# Altium integrated library Resistor - Chip - Uniohm.IntLib: 336 symbols (part 3 of 3)
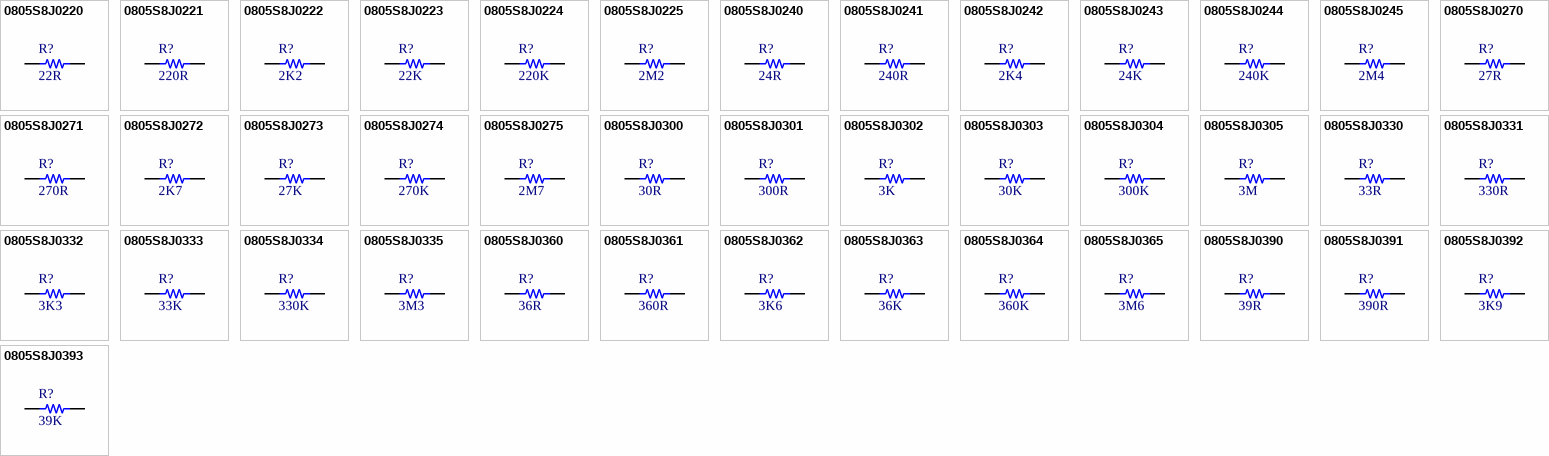
[diagram p10: symbols 0805S8J0220 to 0805S8J0393]

## 0805S8J0273
designator R?, comment 27K
RES SMD 27K OHM 5% 1/8W 0805; Part Number: 0805S8J0273; Manufacturer: Uniohm; TemperatureRange: -55C ~ 155C; TemperatureCoefficient: 100ppm/C; PowerRating: 0.125W, 1/8W; Value: 27K; Tolerance: 5%; Price: 0.0089; Device Package: 2012 (0805 Metric)
footprint RES 0805/2012 (Chip Resistor, 2-Leads, Body 2.00x1.25mm, IPC Medium Density)
pins: 1, 2

## 0805S8J0274
designator R?, comment 270K
RES SMD 270K OHM 5% 1/8W 0805; Part Number: 0805S8J0274; Manufacturer: Uniohm; TemperatureRange: -55C ~ 155C; TemperatureCoefficient: 100ppm/C; PowerRating: 0.125W, 1/8W; Value: 270K; Tolerance: 5%; Price: 0.0089; Device Package: 2012 (0805 Metric)
footprint RES 0805/2012 (Chip Resistor, 2-Leads, Body 2.00x1.25mm, IPC Medium Density)
pins: 1, 2

## 0805S8J0275
designator R?, comment 2M7
RES SMD 2M7 OHM 5% 1/8W 0805; Part Number: 0805S8J0275; Manufacturer: Uniohm; TemperatureRange: -55C ~ 155C; TemperatureCoefficient: 100ppm/C; PowerRating: 0.125W, 1/8W; Value: 2M7; Tolerance: 5%; Price: 0.0089; Device Package: 2012 (0805 Metric)
footprint RES 0805/2012 (Chip Resistor, 2-Leads, Body 2.00x1.25mm, IPC Medium Density)
pins: 1, 2

## 0805S8J0300
designator R?, comment 30R
RES SMD 30R OHM 5% 1/8W 0805; Part Number: 0805S8J0300; Manufacturer: Uniohm; TemperatureRange: -55C ~ 155C; TemperatureCoefficient: 100ppm/C; PowerRating: 0.125W, 1/8W; Value: 30R; Tolerance: 5%; Price: 0.0089; Device Package: 2012 (0805 Metric)
footprint RES 0805/2012 (Chip Resistor, 2-Leads, Body 2.00x1.25mm, IPC Medium Density)
pins: 1, 2

## 0805S8J0301
designator R?, comment 300R
RES SMD 300R OHM 5% 1/8W 0805; Part Number: 0805S8J0301; Manufacturer: Uniohm; TemperatureRange: -55C ~ 155C; TemperatureCoefficient: 100ppm/C; PowerRating: 0.125W, 1/8W; Value: 300R; Tolerance: 5%; Price: 0.0089; Device Package: 2012 (0805 Metric)
footprint RES 0805/2012 (Chip Resistor, 2-Leads, Body 2.00x1.25mm, IPC Medium Density)
pins: 1, 2

## 0805S8J0302
designator R?, comment 3K
RES SMD 3K OHM 5% 1/8W 0805; Part Number: 0805S8J0302; Manufacturer: Uniohm; TemperatureRange: -55C ~ 155C; TemperatureCoefficient: 100ppm/C; PowerRating: 0.125W, 1/8W; Value: 3K; Tolerance: 5%; Price: 0.0089; Device Package: 2012 (0805 Metric)
footprint RES 0805/2012 (Chip Resistor, 2-Leads, Body 2.00x1.25mm, IPC Medium Density)
pins: 1, 2

## 0805S8J0303
designator R?, comment 30K
RES SMD 30K OHM 5% 1/8W 0805; Part Number: 0805S8J0303; Manufacturer: Uniohm; TemperatureRange: -55C ~ 155C; TemperatureCoefficient: 100ppm/C; PowerRating: 0.125W, 1/8W; Value: 30K; Tolerance: 5%; Price: 0.0089; Device Package: 2012 (0805 Metric)
footprint RES 0805/2012 (Chip Resistor, 2-Leads, Body 2.00x1.25mm, IPC Medium Density)
pins: 1, 2

## 0805S8J0304
designator R?, comment 300K
RES SMD 300K OHM 5% 1/8W 0805; Part Number: 0805S8J0304; Manufacturer: Uniohm; TemperatureRange: -55C ~ 155C; TemperatureCoefficient: 100ppm/C; PowerRating: 0.125W, 1/8W; Value: 300K; Tolerance: 5%; Price: 0.0089; Device Package: 2012 (0805 Metric)
footprint RES 0805/2012 (Chip Resistor, 2-Leads, Body 2.00x1.25mm, IPC Medium Density)
pins: 1, 2

## 0805S8J0305
designator R?, comment 3M
RES SMD 3M OHM 5% 1/8W 0805; Part Number: 0805S8J0305; Manufacturer: Uniohm; TemperatureRange: -55C ~ 155C; TemperatureCoefficient: 100ppm/C; PowerRating: 0.125W, 1/8W; Value: 3M; Tolerance: 5%; Price: 0.0089; Device Package: 2012 (0805 Metric)
footprint RES 0805/2012 (Chip Resistor, 2-Leads, Body 2.00x1.25mm, IPC Medium Density)
pins: 1, 2

## 0805S8J0330
designator R?, comment 33R
RES SMD 33R OHM 5% 1/8W 0805; Part Number: 0805S8J0330; Manufacturer: Uniohm; TemperatureRange: -55C ~ 155C; TemperatureCoefficient: 100ppm/C; PowerRating: 0.125W, 1/8W; Value: 33R; Tolerance: 5%; Price: 0.0089; Device Package: 2012 (0805 Metric)
footprint RES 0805/2012 (Chip Resistor, 2-Leads, Body 2.00x1.25mm, IPC Medium Density)
pins: 1, 2

## 0805S8J0331
designator R?, comment 330R
RES SMD 330R OHM 5% 1/8W 0805; Part Number: 0805S8J0331; Manufacturer: Uniohm; TemperatureRange: -55C ~ 155C; TemperatureCoefficient: 100ppm/C; PowerRating: 0.125W, 1/8W; Value: 330R; Tolerance: 5%; Price: 0.0089; Device Package: 2012 (0805 Metric)
footprint RES 0805/2012 (Chip Resistor, 2-Leads, Body 2.00x1.25mm, IPC Medium Density)
pins: 1, 2

## 0805S8J0332
designator R?, comment 3K3
RES SMD 3K3 OHM 5% 1/8W 0805; Part Number: 0805S8J0332; Manufacturer: Uniohm; TemperatureRange: -55C ~ 155C; TemperatureCoefficient: 100ppm/C; PowerRating: 0.125W, 1/8W; Value: 3K3; Tolerance: 5%; Price: 0.0089; Device Package: 2012 (0805 Metric)
footprint RES 0805/2012 (Chip Resistor, 2-Leads, Body 2.00x1.25mm, IPC Medium Density)
pins: 1, 2

## 0805S8J0333
designator R?, comment 33K
RES SMD 33K OHM 5% 1/8W 0805; Part Number: 0805S8J0333; Manufacturer: Uniohm; TemperatureRange: -55C ~ 155C; TemperatureCoefficient: 100ppm/C; PowerRating: 0.125W, 1/8W; Value: 33K; Tolerance: 5%; Price: 0.0089; Device Package: 2012 (0805 Metric)
footprint RES 0805/2012 (Chip Resistor, 2-Leads, Body 2.00x1.25mm, IPC Medium Density)
pins: 1, 2

## 0805S8J0334
designator R?, comment 330K
RES SMD 330K OHM 5% 1/8W 0805; Part Number: 0805S8J0334; Manufacturer: Uniohm; TemperatureRange: -55C ~ 155C; TemperatureCoefficient: 100ppm/C; PowerRating: 0.125W, 1/8W; Value: 330K; Tolerance: 5%; Price: 0.0089; Device Package: 2012 (0805 Metric)
footprint RES 0805/2012 (Chip Resistor, 2-Leads, Body 2.00x1.25mm, IPC Medium Density)
pins: 1, 2

## 0805S8J0335
designator R?, comment 3M3
RES SMD 3M3 OHM 5% 1/8W 0805; Part Number: 0805S8J0335; Manufacturer: Uniohm; TemperatureRange: -55C ~ 155C; TemperatureCoefficient: 100ppm/C; PowerRating: 0.125W, 1/8W; Value: 3M3; Tolerance: 5%; Price: 0.0089; Device Package: 2012 (0805 Metric)
footprint RES 0805/2012 (Chip Resistor, 2-Leads, Body 2.00x1.25mm, IPC Medium Density)
pins: 1, 2

## 0805S8J0360
designator R?, comment 36R
RES SMD 36R OHM 5% 1/8W 0805; Part Number: 0805S8J0360; Manufacturer: Uniohm; TemperatureRange: -55C ~ 155C; TemperatureCoefficient: 100ppm/C; PowerRating: 0.125W, 1/8W; Value: 36R; Tolerance: 5%; Price: 0.0089; Device Package: 2012 (0805 Metric)
footprint RES 0805/2012 (Chip Resistor, 2-Leads, Body 2.00x1.25mm, IPC Medium Density)
pins: 1, 2

## 0805S8J0361
designator R?, comment 360R
RES SMD 360R OHM 5% 1/8W 0805; Part Number: 0805S8J0361; Manufacturer: Uniohm; TemperatureRange: -55C ~ 155C; TemperatureCoefficient: 100ppm/C; PowerRating: 0.125W, 1/8W; Value: 360R; Tolerance: 5%; Price: 0.0089; Device Package: 2012 (0805 Metric)
footprint RES 0805/2012 (Chip Resistor, 2-Leads, Body 2.00x1.25mm, IPC Medium Density)
pins: 1, 2

## 0805S8J0362
designator R?, comment 3K6
RES SMD 3K6 OHM 5% 1/8W 0805; Part Number: 0805S8J0362; Manufacturer: Uniohm; TemperatureRange: -55C ~ 155C; TemperatureCoefficient: 100ppm/C; PowerRating: 0.125W, 1/8W; Value: 3K6; Tolerance: 5%; Price: 0.0089; Device Package: 2012 (0805 Metric)
footprint RES 0805/2012 (Chip Resistor, 2-Leads, Body 2.00x1.25mm, IPC Medium Density)
pins: 1, 2

## 0805S8J0363
designator R?, comment 36K
RES SMD 36K OHM 5% 1/8W 0805; Part Number: 0805S8J0363; Manufacturer: Uniohm; TemperatureRange: -55C ~ 155C; TemperatureCoefficient: 100ppm/C; PowerRating: 0.125W, 1/8W; Value: 36K; Tolerance: 5%; Price: 0.0089; Device Package: 2012 (0805 Metric)
footprint RES 0805/2012 (Chip Resistor, 2-Leads, Body 2.00x1.25mm, IPC Medium Density)
pins: 1, 2

## 0805S8J0364
designator R?, comment 360K
RES SMD 360K OHM 5% 1/8W 0805; Part Number: 0805S8J0364; Manufacturer: Uniohm; TemperatureRange: -55C ~ 155C; TemperatureCoefficient: 100ppm/C; PowerRating: 0.125W, 1/8W; Value: 360K; Tolerance: 5%; Price: 0.0089; Device Package: 2012 (0805 Metric)
footprint RES 0805/2012 (Chip Resistor, 2-Leads, Body 2.00x1.25mm, IPC Medium Density)
pins: 1, 2

## 0805S8J0365
designator R?, comment 3M6
RES SMD 3M6 OHM 5% 1/8W 0805; Part Number: 0805S8J0365; Manufacturer: Uniohm; TemperatureRange: -55C ~ 155C; TemperatureCoefficient: 100ppm/C; PowerRating: 0.125W, 1/8W; Value: 3M6; Tolerance: 5%; Price: 0.0089; Device Package: 2012 (0805 Metric)
footprint RES 0805/2012 (Chip Resistor, 2-Leads, Body 2.00x1.25mm, IPC Medium Density)
pins: 1, 2

## 0805S8J0390
designator R?, comment 39R
RES SMD 39R OHM 5% 1/8W 0805; Part Number: 0805S8J0390; Manufacturer: Uniohm; TemperatureRange: -55C ~ 155C; TemperatureCoefficient: 100ppm/C; PowerRating: 0.125W, 1/8W; Value: 39R; Tolerance: 5%; Price: 0.0089; Device Package: 2012 (0805 Metric)
footprint RES 0805/2012 (Chip Resistor, 2-Leads, Body 2.00x1.25mm, IPC Medium Density)
pins: 1, 2

## 0805S8J0391
designator R?, comment 390R
RES SMD 390R OHM 5% 1/8W 0805; Part Number: 0805S8J0391; Manufacturer: Uniohm; TemperatureRange: -55C ~ 155C; TemperatureCoefficient: 100ppm/C; PowerRating: 0.125W, 1/8W; Value: 390R; Tolerance: 5%; Price: 0.0089; Device Package: 2012 (0805 Metric)
footprint RES 0805/2012 (Chip Resistor, 2-Leads, Body 2.00x1.25mm, IPC Medium Density)
pins: 1, 2

## 0805S8J0392
designator R?, comment 3K9
RES SMD 3K9 OHM 5% 1/8W 0805; Part Number: 0805S8J0392; Manufacturer: Uniohm; TemperatureRange: -55C ~ 155C; TemperatureCoefficient: 100ppm/C; PowerRating: 0.125W, 1/8W; Value: 3K9; Tolerance: 5%; Price: 0.0089; Device Package: 2012 (0805 Metric)
footprint RES 0805/2012 (Chip Resistor, 2-Leads, Body 2.00x1.25mm, IPC Medium Density)
pins: 1, 2

## 0805S8J0393
designator R?, comment 39K
RES SMD 39K OHM 5% 1/8W 0805; Part Number: 0805S8J0393; Manufacturer: Uniohm; TemperatureRange: -55C ~ 155C; TemperatureCoefficient: 100ppm/C; PowerRating: 0.125W, 1/8W; Value: 39K; Tolerance: 5%; Price: 0.0089; Device Package: 2012 (0805 Metric)
footprint RES 0805/2012 (Chip Resistor, 2-Leads, Body 2.00x1.25mm, IPC Medium Density)
pins: 1, 2

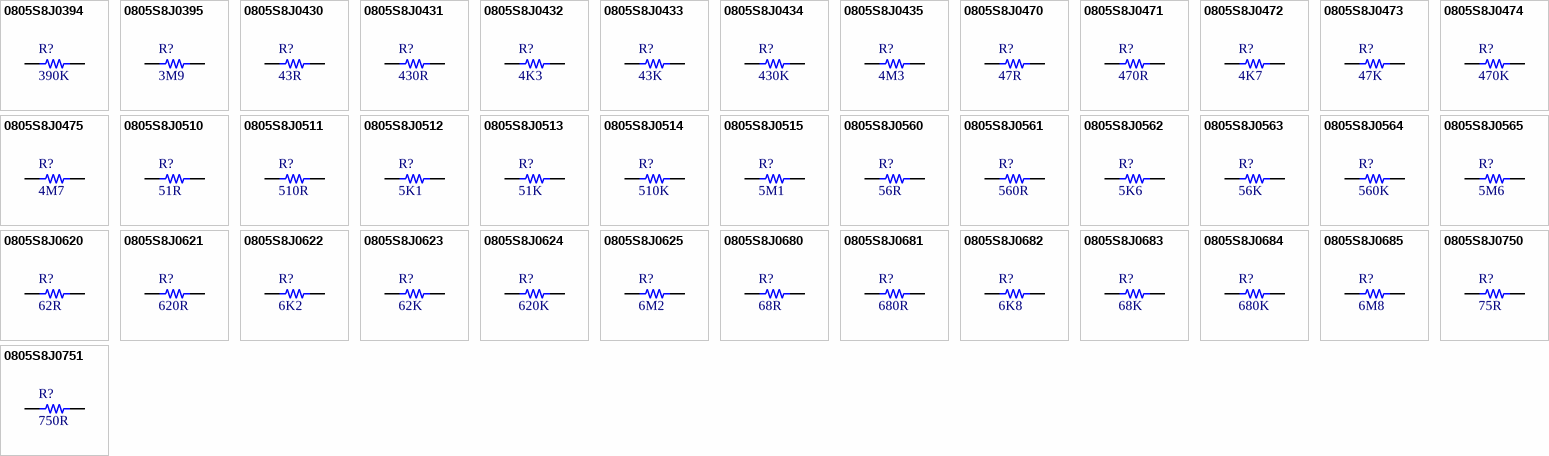
[diagram p7: symbols 0805S8J0394 to 0805S8J0751]

## 0805S8J0394
designator R?, comment 390K
RES SMD 390K OHM 5% 1/8W 0805; Part Number: 0805S8J0394; Manufacturer: Uniohm; TemperatureRange: -55C ~ 155C; TemperatureCoefficient: 100ppm/C; PowerRating: 0.125W, 1/8W; Value: 390K; Tolerance: 5%; Price: 0.0089; Device Package: 2012 (0805 Metric)
footprint RES 0805/2012 (Chip Resistor, 2-Leads, Body 2.00x1.25mm, IPC Medium Density)
pins: 1, 2

## 0805S8J0395
designator R?, comment 3M9
RES SMD 3M9 OHM 5% 1/8W 0805; Part Number: 0805S8J0395; Manufacturer: Uniohm; TemperatureRange: -55C ~ 155C; TemperatureCoefficient: 100ppm/C; PowerRating: 0.125W, 1/8W; Value: 3M9; Tolerance: 5%; Price: 0.0089; Device Package: 2012 (0805 Metric)
footprint RES 0805/2012 (Chip Resistor, 2-Leads, Body 2.00x1.25mm, IPC Medium Density)
pins: 1, 2

## 0805S8J0430
designator R?, comment 43R
RES SMD 43R OHM 5% 1/8W 0805; Part Number: 0805S8J0430; Manufacturer: Uniohm; TemperatureRange: -55C ~ 155C; TemperatureCoefficient: 100ppm/C; PowerRating: 0.125W, 1/8W; Value: 43R; Tolerance: 5%; Price: 0.0089; Device Package: 2012 (0805 Metric)
footprint RES 0805/2012 (Chip Resistor, 2-Leads, Body 2.00x1.25mm, IPC Medium Density)
pins: 1, 2

## 0805S8J0431
designator R?, comment 430R
RES SMD 430R OHM 5% 1/8W 0805; Part Number: 0805S8J0431; Manufacturer: Uniohm; TemperatureRange: -55C ~ 155C; TemperatureCoefficient: 100ppm/C; PowerRating: 0.125W, 1/8W; Value: 430R; Tolerance: 5%; Price: 0.0089; Device Package: 2012 (0805 Metric)
footprint RES 0805/2012 (Chip Resistor, 2-Leads, Body 2.00x1.25mm, IPC Medium Density)
pins: 1, 2

## 0805S8J0432
designator R?, comment 4K3
RES SMD 4K3 OHM 5% 1/8W 0805; Part Number: 0805S8J0432; Manufacturer: Uniohm; TemperatureRange: -55C ~ 155C; TemperatureCoefficient: 100ppm/C; PowerRating: 0.125W, 1/8W; Value: 4K3; Tolerance: 5%; Price: 0.0089; Device Package: 2012 (0805 Metric)
footprint RES 0805/2012 (Chip Resistor, 2-Leads, Body 2.00x1.25mm, IPC Medium Density)
pins: 1, 2

## 0805S8J0433
designator R?, comment 43K
RES SMD 43K OHM 5% 1/8W 0805; Part Number: 0805S8J0433; Manufacturer: Uniohm; TemperatureRange: -55C ~ 155C; TemperatureCoefficient: 100ppm/C; PowerRating: 0.125W, 1/8W; Value: 43K; Tolerance: 5%; Price: 0.0089; Device Package: 2012 (0805 Metric)
footprint RES 0805/2012 (Chip Resistor, 2-Leads, Body 2.00x1.25mm, IPC Medium Density)
pins: 1, 2

## 0805S8J0434
designator R?, comment 430K
RES SMD 430K OHM 5% 1/8W 0805; Part Number: 0805S8J0434; Manufacturer: Uniohm; TemperatureRange: -55C ~ 155C; TemperatureCoefficient: 100ppm/C; PowerRating: 0.125W, 1/8W; Value: 430K; Tolerance: 5%; Price: 0.0089; Device Package: 2012 (0805 Metric)
footprint RES 0805/2012 (Chip Resistor, 2-Leads, Body 2.00x1.25mm, IPC Medium Density)
pins: 1, 2

## 0805S8J0435
designator R?, comment 4M3
RES SMD 4M3 OHM 5% 1/8W 0805; Part Number: 0805S8J0435; Manufacturer: Uniohm; TemperatureRange: -55C ~ 155C; TemperatureCoefficient: 100ppm/C; PowerRating: 0.125W, 1/8W; Value: 4M3; Tolerance: 5%; Price: 0.0089; Device Package: 2012 (0805 Metric)
footprint RES 0805/2012 (Chip Resistor, 2-Leads, Body 2.00x1.25mm, IPC Medium Density)
pins: 1, 2

## 0805S8J0470
designator R?, comment 47R
RES SMD 47R OHM 5% 1/8W 0805; Part Number: 0805S8J0470; Manufacturer: Uniohm; TemperatureRange: -55C ~ 155C; TemperatureCoefficient: 100ppm/C; PowerRating: 0.125W, 1/8W; Value: 47R; Tolerance: 5%; Price: 0.0089; Device Package: 2012 (0805 Metric)
footprint RES 0805/2012 (Chip Resistor, 2-Leads, Body 2.00x1.25mm, IPC Medium Density)
pins: 1, 2

## 0805S8J0471
designator R?, comment 470R
RES SMD 470R OHM 5% 1/8W 0805; Part Number: 0805S8J0471; Manufacturer: Uniohm; TemperatureRange: -55C ~ 155C; TemperatureCoefficient: 100ppm/C; PowerRating: 0.125W, 1/8W; Value: 470R; Tolerance: 5%; Price: 0.0089; Device Package: 2012 (0805 Metric)
footprint RES 0805/2012 (Chip Resistor, 2-Leads, Body 2.00x1.25mm, IPC Medium Density)
pins: 1, 2

## 0805S8J0472
designator R?, comment 4K7
RES SMD 4K7 OHM 5% 1/8W 0805; Part Number: 0805S8J0472; Manufacturer: Uniohm; TemperatureRange: -55C ~ 155C; TemperatureCoefficient: 100ppm/C; PowerRating: 0.125W, 1/8W; Value: 4K7; Tolerance: 5%; Price: 0.0089; Device Package: 2012 (0805 Metric)
footprint RES 0805/2012 (Chip Resistor, 2-Leads, Body 2.00x1.25mm, IPC Medium Density)
pins: 1, 2

## 0805S8J0473
designator R?, comment 47K
RES SMD 47K OHM 5% 1/8W 0805; Part Number: 0805S8J0473; Manufacturer: Uniohm; TemperatureRange: -55C ~ 155C; TemperatureCoefficient: 100ppm/C; PowerRating: 0.125W, 1/8W; Value: 47K; Tolerance: 5%; Price: 0.0089; Device Package: 2012 (0805 Metric)
footprint RES 0805/2012 (Chip Resistor, 2-Leads, Body 2.00x1.25mm, IPC Medium Density)
pins: 1, 2

## 0805S8J0474
designator R?, comment 470K
RES SMD 470K OHM 5% 1/8W 0805; Part Number: 0805S8J0474; Manufacturer: Uniohm; TemperatureRange: -55C ~ 155C; TemperatureCoefficient: 100ppm/C; PowerRating: 0.125W, 1/8W; Value: 470K; Tolerance: 5%; Price: 0.0089; Device Package: 2012 (0805 Metric)
footprint RES 0805/2012 (Chip Resistor, 2-Leads, Body 2.00x1.25mm, IPC Medium Density)
pins: 1, 2

## 0805S8J0475
designator R?, comment 4M7
RES SMD 4M7 OHM 5% 1/8W 0805; Part Number: 0805S8J0475; Manufacturer: Uniohm; TemperatureRange: -55C ~ 155C; TemperatureCoefficient: 100ppm/C; PowerRating: 0.125W, 1/8W; Value: 4M7; Tolerance: 5%; Price: 0.0089; Device Package: 2012 (0805 Metric)
footprint RES 0805/2012 (Chip Resistor, 2-Leads, Body 2.00x1.25mm, IPC Medium Density)
pins: 1, 2

## 0805S8J0510
designator R?, comment 51R
RES SMD 51R OHM 5% 1/8W 0805; Part Number: 0805S8J0510; Manufacturer: Uniohm; TemperatureRange: -55C ~ 155C; TemperatureCoefficient: 100ppm/C; PowerRating: 0.125W, 1/8W; Value: 51R; Tolerance: 5%; Price: 0.0089; Device Package: 2012 (0805 Metric)
footprint RES 0805/2012 (Chip Resistor, 2-Leads, Body 2.00x1.25mm, IPC Medium Density)
pins: 1, 2

## 0805S8J0511
designator R?, comment 510R
RES SMD 510R OHM 5% 1/8W 0805; Part Number: 0805S8J0511; Manufacturer: Uniohm; TemperatureRange: -55C ~ 155C; TemperatureCoefficient: 100ppm/C; PowerRating: 0.125W, 1/8W; Value: 510R; Tolerance: 5%; Price: 0.0089; Device Package: 2012 (0805 Metric)
footprint RES 0805/2012 (Chip Resistor, 2-Leads, Body 2.00x1.25mm, IPC Medium Density)
pins: 1, 2

## 0805S8J0512
designator R?, comment 5K1
RES SMD 5K1 OHM 5% 1/8W 0805; Part Number: 0805S8J0512; Manufacturer: Uniohm; TemperatureRange: -55C ~ 155C; TemperatureCoefficient: 100ppm/C; PowerRating: 0.125W, 1/8W; Value: 5K1; Tolerance: 5%; Price: 0.0089; Device Package: 2012 (0805 Metric)
footprint RES 0805/2012 (Chip Resistor, 2-Leads, Body 2.00x1.25mm, IPC Medium Density)
pins: 1, 2

## 0805S8J0513
designator R?, comment 51K
RES SMD 51K OHM 5% 1/8W 0805; Part Number: 0805S8J0513; Manufacturer: Uniohm; TemperatureRange: -55C ~ 155C; TemperatureCoefficient: 100ppm/C; PowerRating: 0.125W, 1/8W; Value: 51K; Tolerance: 5%; Price: 0.0089; Device Package: 2012 (0805 Metric)
footprint RES 0805/2012 (Chip Resistor, 2-Leads, Body 2.00x1.25mm, IPC Medium Density)
pins: 1, 2

## 0805S8J0514
designator R?, comment 510K
RES SMD 510K OHM 5% 1/8W 0805; Part Number: 0805S8J0514; Manufacturer: Uniohm; TemperatureRange: -55C ~ 155C; TemperatureCoefficient: 100ppm/C; PowerRating: 0.125W, 1/8W; Value: 510K; Tolerance: 5%; Price: 0.0089; Device Package: 2012 (0805 Metric)
footprint RES 0805/2012 (Chip Resistor, 2-Leads, Body 2.00x1.25mm, IPC Medium Density)
pins: 1, 2

## 0805S8J0515
designator R?, comment 5M1
RES SMD 5M1 OHM 5% 1/8W 0805; Part Number: 0805S8J0515; Manufacturer: Uniohm; TemperatureRange: -55C ~ 155C; TemperatureCoefficient: 100ppm/C; PowerRating: 0.125W, 1/8W; Value: 5M1; Tolerance: 5%; Price: 0.0089; Device Package: 2012 (0805 Metric)
footprint RES 0805/2012 (Chip Resistor, 2-Leads, Body 2.00x1.25mm, IPC Medium Density)
pins: 1, 2

## 0805S8J0560
designator R?, comment 56R
RES SMD 56R OHM 5% 1/8W 0805; Part Number: 0805S8J0560; Manufacturer: Uniohm; TemperatureRange: -55C ~ 155C; TemperatureCoefficient: 100ppm/C; PowerRating: 0.125W, 1/8W; Value: 56R; Tolerance: 5%; Price: 0.0089; Device Package: 2012 (0805 Metric)
footprint RES 0805/2012 (Chip Resistor, 2-Leads, Body 2.00x1.25mm, IPC Medium Density)
pins: 1, 2

## 0805S8J0561
designator R?, comment 560R
RES SMD 560R OHM 5% 1/8W 0805; Part Number: 0805S8J0561; Manufacturer: Uniohm; TemperatureRange: -55C ~ 155C; TemperatureCoefficient: 100ppm/C; PowerRating: 0.125W, 1/8W; Value: 560R; Tolerance: 5%; Price: 0.0089; Device Package: 2012 (0805 Metric)
footprint RES 0805/2012 (Chip Resistor, 2-Leads, Body 2.00x1.25mm, IPC Medium Density)
pins: 1, 2

## 0805S8J0562
designator R?, comment 5K6
RES SMD 5K6 OHM 5% 1/8W 0805; Part Number: 0805S8J0562; Manufacturer: Uniohm; TemperatureRange: -55C ~ 155C; TemperatureCoefficient: 100ppm/C; PowerRating: 0.125W, 1/8W; Value: 5K6; Tolerance: 5%; Price: 0.0089; Device Package: 2012 (0805 Metric)
footprint RES 0805/2012 (Chip Resistor, 2-Leads, Body 2.00x1.25mm, IPC Medium Density)
pins: 1, 2

## 0805S8J0563
designator R?, comment 56K
RES SMD 56K OHM 5% 1/8W 0805; Part Number: 0805S8J0563; Manufacturer: Uniohm; TemperatureRange: -55C ~ 155C; TemperatureCoefficient: 100ppm/C; PowerRating: 0.125W, 1/8W; Value: 56K; Tolerance: 5%; Price: 0.0089; Device Package: 2012 (0805 Metric)
footprint RES 0805/2012 (Chip Resistor, 2-Leads, Body 2.00x1.25mm, IPC Medium Density)
pins: 1, 2

## 0805S8J0564
designator R?, comment 560K
RES SMD 560K OHM 5% 1/8W 0805; Part Number: 0805S8J0564; Manufacturer: Uniohm; TemperatureRange: -55C ~ 155C; TemperatureCoefficient: 100ppm/C; PowerRating: 0.125W, 1/8W; Value: 560K; Tolerance: 5%; Price: 0.0089; Device Package: 2012 (0805 Metric)
footprint RES 0805/2012 (Chip Resistor, 2-Leads, Body 2.00x1.25mm, IPC Medium Density)
pins: 1, 2

## 0805S8J0565
designator R?, comment 5M6
RES SMD 5M6 OHM 5% 1/8W 0805; Part Number: 0805S8J0565; Manufacturer: Uniohm; TemperatureRange: -55C ~ 155C; TemperatureCoefficient: 100ppm/C; PowerRating: 0.125W, 1/8W; Value: 5M6; Tolerance: 5%; Price: 0.0089; Device Package: 2012 (0805 Metric)
footprint RES 0805/2012 (Chip Resistor, 2-Leads, Body 2.00x1.25mm, IPC Medium Density)
pins: 1, 2

## 0805S8J0620
designator R?, comment 62R
RES SMD 62R OHM 5% 1/8W 0805; Part Number: 0805S8J0620; Manufacturer: Uniohm; TemperatureRange: -55C ~ 155C; TemperatureCoefficient: 100ppm/C; PowerRating: 0.125W, 1/8W; Value: 62R; Tolerance: 5%; Price: 0.0089; Device Package: 2012 (0805 Metric)
footprint RES 0805/2012 (Chip Resistor, 2-Leads, Body 2.00x1.25mm, IPC Medium Density)
pins: 1, 2

## 0805S8J0621
designator R?, comment 620R
RES SMD 620R OHM 5% 1/8W 0805; Part Number: 0805S8J0621; Manufacturer: Uniohm; TemperatureRange: -55C ~ 155C; TemperatureCoefficient: 100ppm/C; PowerRating: 0.125W, 1/8W; Value: 620R; Tolerance: 5%; Price: 0.0089; Device Package: 2012 (0805 Metric)
footprint RES 0805/2012 (Chip Resistor, 2-Leads, Body 2.00x1.25mm, IPC Medium Density)
pins: 1, 2

## 0805S8J0622
designator R?, comment 6K2
RES SMD 6K2 OHM 5% 1/8W 0805; Part Number: 0805S8J0622; Manufacturer: Uniohm; TemperatureRange: -55C ~ 155C; TemperatureCoefficient: 100ppm/C; PowerRating: 0.125W, 1/8W; Value: 6K2; Tolerance: 5%; Price: 0.0089; Device Package: 2012 (0805 Metric)
footprint RES 0805/2012 (Chip Resistor, 2-Leads, Body 2.00x1.25mm, IPC Medium Density)
pins: 1, 2

## 0805S8J0623
designator R?, comment 62K
RES SMD 62K OHM 5% 1/8W 0805; Part Number: 0805S8J0623; Manufacturer: Uniohm; TemperatureRange: -55C ~ 155C; TemperatureCoefficient: 100ppm/C; PowerRating: 0.125W, 1/8W; Value: 62K; Tolerance: 5%; Price: 0.0089; Device Package: 2012 (0805 Metric)
footprint RES 0805/2012 (Chip Resistor, 2-Leads, Body 2.00x1.25mm, IPC Medium Density)
pins: 1, 2

## 0805S8J0624
designator R?, comment 620K
RES SMD 620K OHM 5% 1/8W 0805; Part Number: 0805S8J0624; Manufacturer: Uniohm; TemperatureRange: -55C ~ 155C; TemperatureCoefficient: 100ppm/C; PowerRating: 0.125W, 1/8W; Value: 620K; Tolerance: 5%; Price: 0.0089; Device Package: 2012 (0805 Metric)
footprint RES 0805/2012 (Chip Resistor, 2-Leads, Body 2.00x1.25mm, IPC Medium Density)
pins: 1, 2

## 0805S8J0625
designator R?, comment 6M2
RES SMD 6M2 OHM 5% 1/8W 0805; Part Number: 0805S8J0625; Manufacturer: Uniohm; TemperatureRange: -55C ~ 155C; TemperatureCoefficient: 100ppm/C; PowerRating: 0.125W, 1/8W; Value: 6M2; Tolerance: 5%; Price: 0.0089; Device Package: 2012 (0805 Metric)
footprint RES 0805/2012 (Chip Resistor, 2-Leads, Body 2.00x1.25mm, IPC Medium Density)
pins: 1, 2

## 0805S8J0680
designator R?, comment 68R
RES SMD 68R OHM 5% 1/8W 0805; Part Number: 0805S8J0680; Manufacturer: Uniohm; TemperatureRange: -55C ~ 155C; TemperatureCoefficient: 100ppm/C; PowerRating: 0.125W, 1/8W; Value: 68R; Tolerance: 5%; Price: 0.0089; Device Package: 2012 (0805 Metric)
footprint RES 0805/2012 (Chip Resistor, 2-Leads, Body 2.00x1.25mm, IPC Medium Density)
pins: 1, 2

## 0805S8J0681
designator R?, comment 680R
RES SMD 680R OHM 5% 1/8W 0805; Part Number: 0805S8J0681; Manufacturer: Uniohm; TemperatureRange: -55C ~ 155C; TemperatureCoefficient: 100ppm/C; PowerRating: 0.125W, 1/8W; Value: 680R; Tolerance: 5%; Price: 0.0089; Device Package: 2012 (0805 Metric)
footprint RES 0805/2012 (Chip Resistor, 2-Leads, Body 2.00x1.25mm, IPC Medium Density)
pins: 1, 2

## 0805S8J0682
designator R?, comment 6K8
RES SMD 6K8 OHM 5% 1/8W 0805; Part Number: 0805S8J0682; Manufacturer: Uniohm; TemperatureRange: -55C ~ 155C; TemperatureCoefficient: 100ppm/C; PowerRating: 0.125W, 1/8W; Value: 6K8; Tolerance: 5%; Price: 0.0089; Device Package: 2012 (0805 Metric)
footprint RES 0805/2012 (Chip Resistor, 2-Leads, Body 2.00x1.25mm, IPC Medium Density)
pins: 1, 2

## 0805S8J0683
designator R?, comment 68K
RES SMD 68K OHM 5% 1/8W 0805; Part Number: 0805S8J0683; Manufacturer: Uniohm; TemperatureRange: -55C ~ 155C; TemperatureCoefficient: 100ppm/C; PowerRating: 0.125W, 1/8W; Value: 68K; Tolerance: 5%; Price: 0.0089; Device Package: 2012 (0805 Metric)
footprint RES 0805/2012 (Chip Resistor, 2-Leads, Body 2.00x1.25mm, IPC Medium Density)
pins: 1, 2

## 0805S8J0684
designator R?, comment 680K
RES SMD 680K OHM 5% 1/8W 0805; Part Number: 0805S8J0684; Manufacturer: Uniohm; TemperatureRange: -55C ~ 155C; TemperatureCoefficient: 100ppm/C; PowerRating: 0.125W, 1/8W; Value: 680K; Tolerance: 5%; Price: 0.0089; Device Package: 2012 (0805 Metric)
footprint RES 0805/2012 (Chip Resistor, 2-Leads, Body 2.00x1.25mm, IPC Medium Density)
pins: 1, 2

## 0805S8J0685
designator R?, comment 6M8
RES SMD 6M8 OHM 5% 1/8W 0805; Part Number: 0805S8J0685; Manufacturer: Uniohm; TemperatureRange: -55C ~ 155C; TemperatureCoefficient: 100ppm/C; PowerRating: 0.125W, 1/8W; Value: 6M8; Tolerance: 5%; Price: 0.0089; Device Package: 2012 (0805 Metric)
footprint RES 0805/2012 (Chip Resistor, 2-Leads, Body 2.00x1.25mm, IPC Medium Density)
pins: 1, 2

## 0805S8J0750
designator R?, comment 75R
RES SMD 75R OHM 5% 1/8W 0805; Part Number: 0805S8J0750; Manufacturer: Uniohm; TemperatureRange: -55C ~ 155C; TemperatureCoefficient: 100ppm/C; PowerRating: 0.125W, 1/8W; Value: 75R; Tolerance: 5%; Price: 0.0089; Device Package: 2012 (0805 Metric)
footprint RES 0805/2012 (Chip Resistor, 2-Leads, Body 2.00x1.25mm, IPC Medium Density)
pins: 1, 2

## 0805S8J0751
designator R?, comment 750R
RES SMD 750R OHM 5% 1/8W 0805; Part Number: 0805S8J0751; Manufacturer: Uniohm; TemperatureRange: -55C ~ 155C; TemperatureCoefficient: 100ppm/C; PowerRating: 0.125W, 1/8W; Value: 750R; Tolerance: 5%; Price: 0.0089; Device Package: 2012 (0805 Metric)
footprint RES 0805/2012 (Chip Resistor, 2-Leads, Body 2.00x1.25mm, IPC Medium Density)
pins: 1, 2

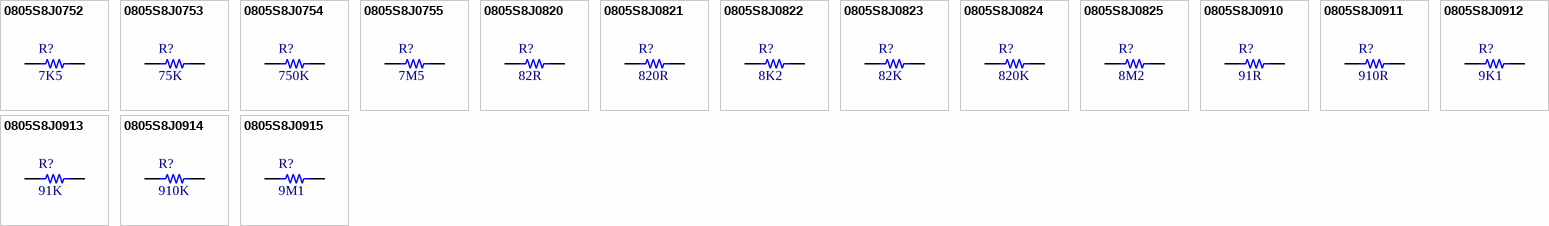
[diagram p8: symbols 0805S8J0752 to 0805S8J0915]

## 0805S8J0752
designator R?, comment 7K5
RES SMD 7K5 OHM 5% 1/8W 0805; Part Number: 0805S8J0752; Manufacturer: Uniohm; TemperatureRange: -55C ~ 155C; TemperatureCoefficient: 100ppm/C; PowerRating: 0.125W, 1/8W; Value: 7K5; Tolerance: 5%; Price: 0.0089; Device Package: 2012 (0805 Metric)
footprint RES 0805/2012 (Chip Resistor, 2-Leads, Body 2.00x1.25mm, IPC Medium Density)
pins: 1, 2

## 0805S8J0753
designator R?, comment 75K
RES SMD 75K OHM 5% 1/8W 0805; Part Number: 0805S8J0753; Manufacturer: Uniohm; TemperatureRange: -55C ~ 155C; TemperatureCoefficient: 100ppm/C; PowerRating: 0.125W, 1/8W; Value: 75K; Tolerance: 5%; Price: 0.0089; Device Package: 2012 (0805 Metric)
footprint RES 0805/2012 (Chip Resistor, 2-Leads, Body 2.00x1.25mm, IPC Medium Density)
pins: 1, 2

## 0805S8J0754
designator R?, comment 750K
RES SMD 750K OHM 5% 1/8W 0805; Part Number: 0805S8J0754; Manufacturer: Uniohm; TemperatureRange: -55C ~ 155C; TemperatureCoefficient: 100ppm/C; PowerRating: 0.125W, 1/8W; Value: 750K; Tolerance: 5%; Price: 0.0089; Device Package: 2012 (0805 Metric)
footprint RES 0805/2012 (Chip Resistor, 2-Leads, Body 2.00x1.25mm, IPC Medium Density)
pins: 1, 2

## 0805S8J0755
designator R?, comment 7M5
RES SMD 7M5 OHM 5% 1/8W 0805; Part Number: 0805S8J0755; Manufacturer: Uniohm; TemperatureRange: -55C ~ 155C; TemperatureCoefficient: 100ppm/C; PowerRating: 0.125W, 1/8W; Value: 7M5; Tolerance: 5%; Price: 0.0089; Device Package: 2012 (0805 Metric)
footprint RES 0805/2012 (Chip Resistor, 2-Leads, Body 2.00x1.25mm, IPC Medium Density)
pins: 1, 2

## 0805S8J0820
designator R?, comment 82R
RES SMD 82R OHM 5% 1/8W 0805; Part Number: 0805S8J0820; Manufacturer: Uniohm; TemperatureRange: -55C ~ 155C; TemperatureCoefficient: 100ppm/C; PowerRating: 0.125W, 1/8W; Value: 82R; Tolerance: 5%; Price: 0.0089; Device Package: 2012 (0805 Metric)
footprint RES 0805/2012 (Chip Resistor, 2-Leads, Body 2.00x1.25mm, IPC Medium Density)
pins: 1, 2

## 0805S8J0821
designator R?, comment 820R
RES SMD 820R OHM 5% 1/8W 0805; Part Number: 0805S8J0821; Manufacturer: Uniohm; TemperatureRange: -55C ~ 155C; TemperatureCoefficient: 100ppm/C; PowerRating: 0.125W, 1/8W; Value: 820R; Tolerance: 5%; Price: 0.0089; Device Package: 2012 (0805 Metric)
footprint RES 0805/2012 (Chip Resistor, 2-Leads, Body 2.00x1.25mm, IPC Medium Density)
pins: 1, 2

## 0805S8J0822
designator R?, comment 8K2
RES SMD 8K2 OHM 5% 1/8W 0805; Part Number: 0805S8J0822; Manufacturer: Uniohm; TemperatureRange: -55C ~ 155C; TemperatureCoefficient: 100ppm/C; PowerRating: 0.125W, 1/8W; Value: 8K2; Tolerance: 5%; Price: 0.0089; Device Package: 2012 (0805 Metric)
footprint RES 0805/2012 (Chip Resistor, 2-Leads, Body 2.00x1.25mm, IPC Medium Density)
pins: 1, 2

## 0805S8J0823
designator R?, comment 82K
RES SMD 82K OHM 5% 1/8W 0805; Part Number: 0805S8J0823; Manufacturer: Uniohm; TemperatureRange: -55C ~ 155C; TemperatureCoefficient: 100ppm/C; PowerRating: 0.125W, 1/8W; Value: 82K; Tolerance: 5%; Price: 0.0089; Device Package: 2012 (0805 Metric)
footprint RES 0805/2012 (Chip Resistor, 2-Leads, Body 2.00x1.25mm, IPC Medium Density)
pins: 1, 2

## 0805S8J0824
designator R?, comment 820K
RES SMD 820K OHM 5% 1/8W 0805; Part Number: 0805S8J0824; Manufacturer: Uniohm; TemperatureRange: -55C ~ 155C; TemperatureCoefficient: 100ppm/C; PowerRating: 0.125W, 1/8W; Value: 820K; Tolerance: 5%; Price: 0.0089; Device Package: 2012 (0805 Metric)
footprint RES 0805/2012 (Chip Resistor, 2-Leads, Body 2.00x1.25mm, IPC Medium Density)
pins: 1, 2

## 0805S8J0825
designator R?, comment 8M2
RES SMD 8M2 OHM 5% 1/8W 0805; Part Number: 0805S8J0825; Manufacturer: Uniohm; TemperatureRange: -55C ~ 155C; TemperatureCoefficient: 100ppm/C; PowerRating: 0.125W, 1/8W; Value: 8M2; Tolerance: 5%; Price: 0.0089; Device Package: 2012 (0805 Metric)
footprint RES 0805/2012 (Chip Resistor, 2-Leads, Body 2.00x1.25mm, IPC Medium Density)
pins: 1, 2

## 0805S8J0910
designator R?, comment 91R
RES SMD 91R OHM 5% 1/8W 0805; Part Number: 0805S8J0910; Manufacturer: Uniohm; TemperatureRange: -55C ~ 155C; TemperatureCoefficient: 100ppm/C; PowerRating: 0.125W, 1/8W; Value: 91R; Tolerance: 5%; Price: 0.0089; Device Package: 2012 (0805 Metric)
footprint RES 0805/2012 (Chip Resistor, 2-Leads, Body 2.00x1.25mm, IPC Medium Density)
pins: 1, 2

## 0805S8J0911
designator R?, comment 910R
RES SMD 910R OHM 5% 1/8W 0805; Part Number: 0805S8J0911; Manufacturer: Uniohm; TemperatureRange: -55C ~ 155C; TemperatureCoefficient: 100ppm/C; PowerRating: 0.125W, 1/8W; Value: 910R; Tolerance: 5%; Price: 0.0089; Device Package: 2012 (0805 Metric)
footprint RES 0805/2012 (Chip Resistor, 2-Leads, Body 2.00x1.25mm, IPC Medium Density)
pins: 1, 2

## 0805S8J0912
designator R?, comment 9K1
RES SMD 9K1 OHM 5% 1/8W 0805; Part Number: 0805S8J0912; Manufacturer: Uniohm; TemperatureRange: -55C ~ 155C; TemperatureCoefficient: 100ppm/C; PowerRating: 0.125W, 1/8W; Value: 9K1; Tolerance: 5%; Price: 0.0089; Device Package: 2012 (0805 Metric)
footprint RES 0805/2012 (Chip Resistor, 2-Leads, Body 2.00x1.25mm, IPC Medium Density)
pins: 1, 2

## 0805S8J0913
designator R?, comment 91K
RES SMD 91K OHM 5% 1/8W 0805; Part Number: 0805S8J0913; Manufacturer: Uniohm; TemperatureRange: -55C ~ 155C; TemperatureCoefficient: 100ppm/C; PowerRating: 0.125W, 1/8W; Value: 91K; Tolerance: 5%; Price: 0.0089; Device Package: 2012 (0805 Metric)
footprint RES 0805/2012 (Chip Resistor, 2-Leads, Body 2.00x1.25mm, IPC Medium Density)
pins: 1, 2

## 0805S8J0914
designator R?, comment 910K
RES SMD 910K OHM 5% 1/8W 0805; Part Number: 0805S8J0914; Manufacturer: Uniohm; TemperatureRange: -55C ~ 155C; TemperatureCoefficient: 100ppm/C; PowerRating: 0.125W, 1/8W; Value: 910K; Tolerance: 5%; Price: 0.0089; Device Package: 2012 (0805 Metric)
footprint RES 0805/2012 (Chip Resistor, 2-Leads, Body 2.00x1.25mm, IPC Medium Density)
pins: 1, 2

## 0805S8J0915
designator R?, comment 9M1
RES SMD 9M1 OHM 5% 1/8W 0805; Part Number: 0805S8J0915; Manufacturer: Uniohm; TemperatureRange: -55C ~ 155C; TemperatureCoefficient: 100ppm/C; PowerRating: 0.125W, 1/8W; Value: 9M1; Tolerance: 5%; Price: 0.0089; Device Package: 2012 (0805 Metric)
footprint RES 0805/2012 (Chip Resistor, 2-Leads, Body 2.00x1.25mm, IPC Medium Density)
pins: 1, 2